# EAGLE library part JP9QE (library jumper)
JUMPER
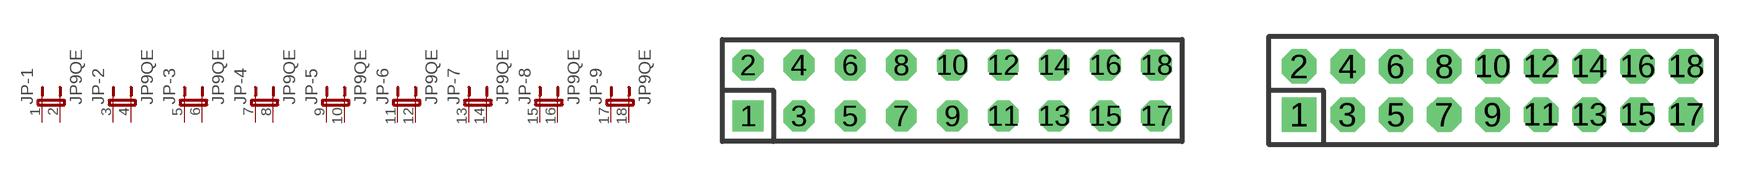
[diagram p6: symbol with the pads of JP9Q; footprints JP9Q, JP9QM]

Designator prefix JP; gates -1=JP2E -2=JP2E -3=JP2E -4=JP2E -5=JP2E -6=JP2E -7=JP2E -8=JP2E -9=JP2E

## JP9QE  [JP9Q]
1  -1:1  pas
2  -1:2  pas
3  -2:1  pas
4  -2:2  pas
5  -3:1  pas
6  -3:2  pas
7  -4:1  pas
8  -4:2  pas
9  -5:1  pas
10  -5:2  pas
11  -6:1  pas
12  -6:2  pas
13  -7:1  pas
14  -7:2  pas
15  -8:1  pas
16  -8:2  pas
17  -9:1  pas
18  -9:2  pas

## JP9QEM  [JP9QM]
Pads as for JP9Q

## Footprint JP9Q (pad centres in mm)
JUMPER - 0.1" Pitch
drill 1.016 square: 1 -10.16,-1.27
drill 1.016 octagon: 2 -10.16,1.27; 3 -7.62,-1.27; 4 -7.62,1.27; 5 -5.08,-1.27; 6 -5.08,1.27; 7 -2.54,-1.27; 8 -2.54,1.27; 9 0,-1.27; 10 0,1.27; 11 2.54,-1.27; 12 2.54,1.27; 13 5.08,-1.27; 14 5.08,1.27; 15 7.62,-1.27; 16 7.62,1.27; 17 10.16,-1.27; 18 10.16,1.27

## Footprint JP9QM (pad centres in mm)
JUMPER - 2.00mm (.079") Pitch
drill 0.914 square: 1 -8,-1
drill 0.914 octagon: 2 -8,1; 3 -6,-1; 4 -6,1; 5 -4,-1; 6 -4,1; 7 -2,-1; 8 -2,1; 9 0,-1; 10 0,1; 11 2,-1; 12 2,1; 13 4,-1; 14 4,1; 15 6,-1; 16 6,1; 17 8,-1; 18 8,1